# Altium schematic symbol library HexaPod - Resistor.SchLib: 8 symbols
Pins are listed as number, name and electrical type; pins without a type are passive.

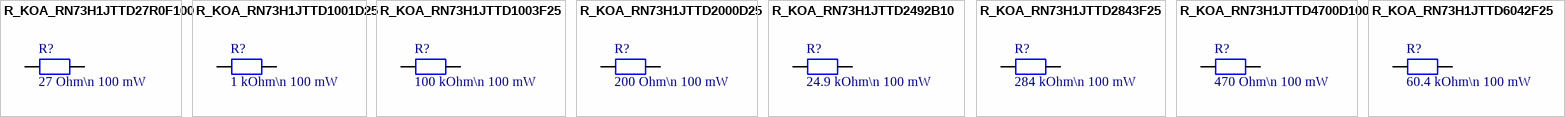
[diagram p0: symbols R_KOA_RN73H1JTTD27R0F100 to R_KOA_RN73H1JTTD6042F25]

## R_KOA_RN73H1JTTD27R0F100
designator R?, comment 27 Ohm\n 100 mW
Dünnfilmwiderstände - SMD; Part Number: R_KOA_RN73H1JTTD27R0F100; Manufacturer: KOA Speer; Manufacturer Part Number: RN73H1JTTD27R0F100; Resistance: 27 Ohm; Tolerance: 1%; Power: 100 mW; Datasheet: https://www.koaspeer.com/pdfs/RN73H.pdf; Operating Temperature: -55°C - +155°C; Mouser Link: https://www.mouser.de/ProductDetail/KOA-Speer/RN73H1JTTD27R0F100?qs=mtPtL6iy6AIfPHdLJ0WjOQ%3D%3D; Size mm: 1608
footprint R_RN73H_1608
pins: 1, 2

## R_KOA_RN73H1JTTD1001D25
designator R?, comment 1 kOhm\n 100 mW
Dünnfilmwiderstände - SMD; Part Number: R_KOA_RN73H1JTTD1001D25; Manufacturer: KOA Speer; Manufacturer Part Number: RN73H1JTTD1001D25; Resistance: 1 kOhm; Tolerance: 0.5%; Power: 100 mW; Datasheet: https://www.koaspeer.com/pdfs/RN73H.pdf; Operating Temperature: -55°C - +155°C; Mouser Link: https://www.mouser.de/ProductDetail/KOA-Speer/RN73H1JTTD1001D25?qs=ZECmXNiBmqODQpyMBKrtyQ%3D%3D; Size mm: 1608
footprint R_RN73H_1608
pins: 1, 2

## R_KOA_RN73H1JTTD1003F25
designator R?, comment 100 kOhm\n 100 mW
Dünnfilmwiderstände - SMD; Part Number: R_KOA_RN73H1JTTD1003F25; Manufacturer: KOA Speer; Manufacturer Part Number: RN73H1JTTD1003F25; Tolerance: 1%; Power: 100 mW; Datasheet: https://www.koaspeer.com/pdfs/RN73H.pdf; Resistance: 100 kOhm; Operating Temperature: -55°C - +155°C; Mouser Link: https://www.mouser.de/ProductDetail/KOA-Speer/RN73H1JTTD1003F25?qs=0hon8nwgHrb3qTypo5Cy3A%3D%3D; Size mm: 1608
footprint R_RN73H_1608
pins: 1, 2

## R_KOA_RN73H1JTTD2000D25
designator R?, comment 200 Ohm\n 100 mW
Dünnfilmwiderstände - SMD; Part Number: R_KOA_RN73H1JTTD2000D25; Manufacturer: KOA Speer; Manufacturer Part Number: RN73H1JTTD2000D25; Resistance: 200 Ohm; Tolerance: 0.5%; Power: 100 mW; Datasheet: https://www.koaspeer.com/pdfs/RN73H.pdf; Operating Temperature: -55°C - +155°C; Mouser Link: https://www.mouser.de/ProductDetail/KOA-Speer/RN73H1JTTD2000D25?qs=0hon8nwgHrYfQTPDNB90lw%3D%3D; Size mm: 1608
footprint R_RN73H_1608
pins: 1, 2

## R_KOA_RN73H1JTTD2492B10
designator R?, comment 24.9 kOhm\n 100 mW
Dünnfilmwiderstände - SMD; Part Number: R_KOA_RN73H1JTTD2492B10; Manufacturer: KOA Speer; Manufacturer Part Number: RN73H1JTTD2492B10; Tolerance: 0.1%; Power: 100 mW; Datasheet: https://www.koaspeer.com/pdfs/RN73H.pdf; Resistance: 24.9 kOhm; Operating Temperature: -55°C - +155°C; Mouser Link: https://www.mouser.de/ProductDetail/KOA-Speer/RN73H1JTTD2492B10?qs=582LK1XNA7KLozAHyT%252BUfw%3D%3D; Size mm: 1608
footprint R_RN73H_1608
pins: 1, 2

## R_KOA_RN73H1JTTD2843F25
designator R?, comment 284 kOhm\n 100 mW
Dünnfilmwiderstände - SMD; Part Number: R_KOA_RN73H1JTTD2843F25; Manufacturer: KOA Speer; Manufacturer Part Number: RN73H1JTTD2843F25; Tolerance: 1%; Power: 100 mW; Datasheet: https://www.koaspeer.com/pdfs/RN73H.pdf; Resistance: 284 kOhm; Operating Temperature: -55°C - +155°C; Mouser Link: https://www.mouser.de/ProductDetail/KOA-Speer/RN73H1JTTD2843F25?qs=582LK1XNA7Jf3kwjPY%252BqYA%3D%3D; Size mm: 1608
footprint R_RN73H_1608
pins: 1, 2

## R_KOA_RN73H1JTTD4700D100
designator R?, comment 470 Ohm\n 100 mW
Dünnfilmwiderstände - SMD; Part Number: R_KOA_RN73H1JTTD4700D100; Manufacturer: KOA Speer; Manufacturer Part Number: RN73H1JTTD4700D100; Resistance: 470 Ohm; Tolerance: 0.5%; Power: 100 mW; Datasheet: https://www.koaspeer.com/pdfs/RN73H.pdf; Operating Temperature: -55°C - +155°C; Mouser Link: https://www.mouser.de/ProductDetail/KOA-Speer/RN73H1JTTD4700D100?qs=Tw8F%252BABiY2qmDNxgu3vWQA%3D%3D; Size mm: 1608
footprint R_RN73H_1608
pins: 1, 2

## R_KOA_RN73H1JTTD6042F25
designator R?, comment 60.4 kOhm\n 100 mW
Dünnfilmwiderstände - SMD; Part Number: R_KOA_RN73H1JTTD6042F25; Manufacturer: KOA Speer; Manufacturer Part Number: RN73H1JTTD6042F25; Tolerance: 1%; Power: 100 mW; Datasheet: https://www.koaspeer.com/pdfs/RN73H.pdf; Resistance: 60.4 kOhm; Operating Temperature: -55°C - +155°C; Mouser Link: https://www.mouser.de/ProductDetail/KOA-Speer/RN73H1JTTD6042F25?qs=pJKkPLTLvBgHXqGnwuy%252BkQ%3D%3D; Size mm: 1608
footprint R_RN73H_1608
pins: 1, 2